# EAGLE library part LT3150 (library PowerProducts)
LT-Spice library generated with : ltspice.ulp from: E:/Programme/LTC/LTspiceIV/lib/sym/PowerProducts/LT3420*.asy at 05.10.2012 11:12:07
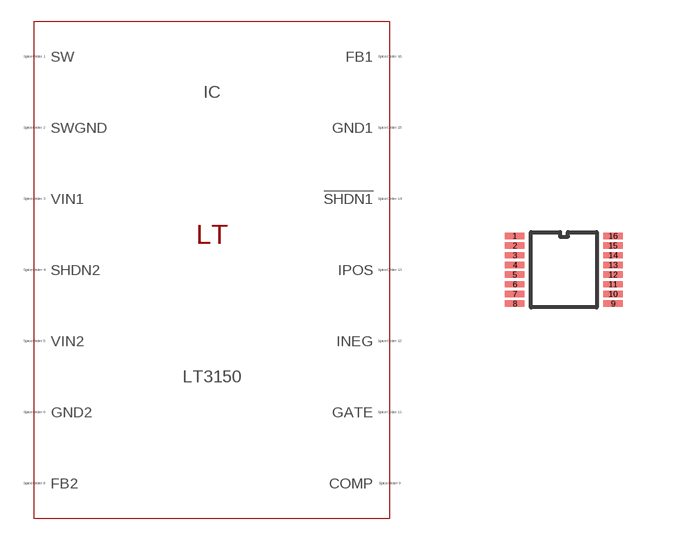
[diagram p31: symbol with the pads of SSOP16(GN); footprint SSOP16(GN)]

Designator prefix IC

## LT3150 (SPICEMODEL: LT1762.lib; SPICEPREFIX: X; VALUE2: LT1762)  [SSOP16(GN)]
1  SW  pas
2  SWGND  pas
3  VIN1  pas
4  SHDN2  pas
5  VIN2  pas
6  GND1  pas
8  FB2  pas
9  COMP  pas
11  GATE  pas
12  INEG  pas
13  IPOS  pas
14  !SHDN1  pas
15  GND2  pas
16  FB1  pas

## Footprint SSOP16(GN) (pad centres in mm)
Package generated from: SSOP16(GN).asc (!PADS-POWERPCB-V5.0-BASIC! DESIGN DATABASE ASCII FILE 1.0) with :import-pads-powerpcb-v5.ulp Version 1.0.1 at 04.10.2012 14:11:37
smd 0.484 x 0.16: 1 -1.229,0.847; 2 -1.229,0.605; 3 -1.229,0.363; 4 -1.229,0.121; 5 -1.229,-0.121; 6 -1.229,-0.363; 7 -1.229,-0.605; 8 -1.229,-0.847; 9 1.229,-0.847; 10 1.229,-0.605; 11 1.229,-0.363; 12 1.229,-0.121; 13 1.229,0.121; 14 1.229,0.363; 15 1.229,0.605; 16 1.229,0.847